# EAGLE library part TPS64200 (library CougsInSpace)
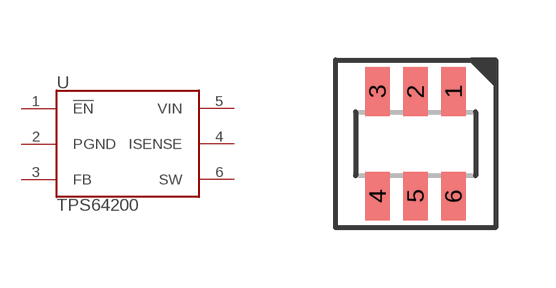
[diagram p5: symbol with the pads of SOT23-6; footprint SOT23-6]

Designator prefix U

## TPS64200  [SOT23-6]
1  !EN  in
2  PGND  pwr
3  FB  in
4  ISENSE  in
5  VIN  pwr
6  SW  out

## Footprint SOT23-6 (pad centres in mm)
smd 0.62 x 1.22: 1 0.95,1.31; 2 0,1.31; 3 -0.95,1.31; 4 -0.95,-1.31; 5 0,-1.31; 6 0.95,-1.31